# EAGLE library part L5973D (library L5973D)
2.5A switch step down switching regulator
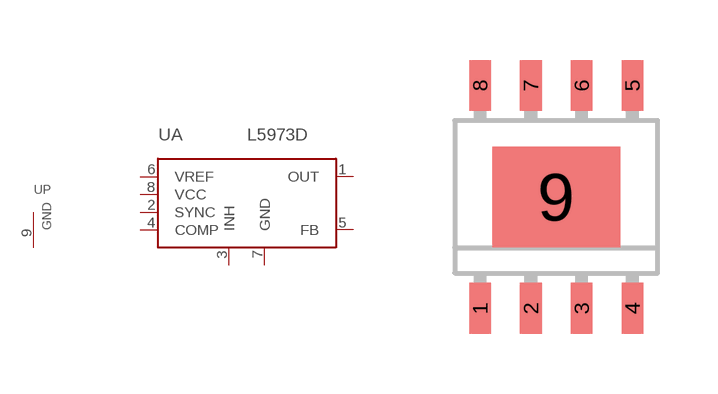
[diagram p0: symbol with the pads of HSOP8; footprint HSOP8]

Designator prefix U; gates A=L5973D P=GND

## L5973D  [HSOP8]
1  A:OUT  sup
2  A:SYNC
3  A:INH  in
4  A:COMP  out
5  A:FB  in
6  A:VREF  out
7  A:GND  pwr
8  A:VCC  sup
9  P:GND  pwr

## Footprint HSOP8 (pad centres in mm)
smd 0.54 x 1.27: 1 -1.905,-2.785; 2 -0.635,-2.785; 3 0.635,-2.785; 4 1.905,-2.785; 5 1.905,2.785; 6 0.635,2.785; 7 -0.635,2.785; 8 -1.905,2.785
smd 3.2 x 2.51: 9 0,0